# Altium footprint library LEM Current Transducer.PcbLib: 6 footprints
Each footprint in its own frame and in the unit in brackets; x right, y up, seen from the top. Pads: shape width x height; smd on the part's side, far side on the other; paste and mask are expansions set on the pad; w line width, h text height; cw(c..) or ccw(c..) is an arc to the next point about the centre after c.
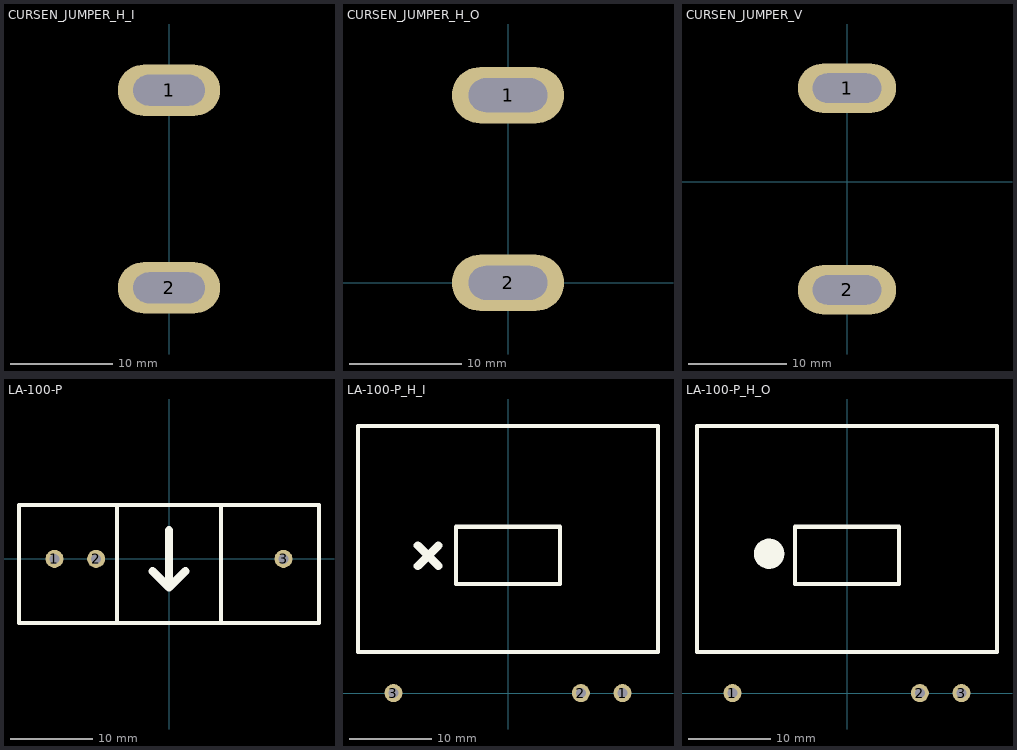
[diagram p0: the footprints below, top view; thin cyan lines are the x and y axes]

## CURSEN_JUMPER_H_I [mm]
height 19
pads (2):
  oval 10x5 hole 3 slot 7 at 0 deg: 1(0,36) 2(0,16.7)
3D body: height 15, standoff -2, extent -3,35 3,37
3D body: height 15, standoff -2, extent -3,15.7 3,17.7
3D body: height 17, standoff 15, extent -3,15.7 3,37

## CURSEN_JUMPER_H_O [mm]
height 19
pads (2):
  oval 10x5 hole 3 slot 7 at 0 deg: 1(0,16.7) 2(0,0)
3D body: height 17, standoff 15, extent -3,-1 3,17.7
3D body: height 15, standoff -2, extent -3,15.7 3,17.7
3D body: height 15, standoff -2, extent -3,-1 3,1

## CURSEN_JUMPER_V [mm]
height 10
pads (2):
  oval 10x5 hole 3 slot 7 at 0 deg: 1(0,9.5) 2(0,-11)

## LA-100-P [mm]
height 27.6
pads (3):
  round 2.2 hole 1.2: 1(-13.97,0) 2(-8.89,0) 3(13.97,0)
Top Overlay:
  lines w0.5: -6.35,-7.8 -6.35,6.55 ; 6.35,-7.8 6.35,6.55 ; -18.3,-7.8 -18.3,6.55 18.3,6.55 18.3,-7.8 -18.3,-7.8
  lines w1: -2,-1.5 0,-3.5 ; 0,3.5 0,-3.5 ; 2,-1.5 0,-3.5
3D body: height 15.3, standoff 8.3, extent 6.35,-7.8 18.3,6.55
3D body: height 15.3, standoff 8.3, extent -18.3,-7.8 -6.35,6.55
3D body: height 8.3, standoff 0, extent -18.3,-7.8 18.3,6.55
3D body: height 27.6, standoff 15.3, extent -18.3,-7.8 18.3,6.55

## LA-100-P_H_I [mm]
height 14.35
pads (3):
  round 2.2 hole 1.2: 1(13.97,0) 2(8.89,0) 3(-13.97,0)
Top Overlay:
  lines w0.5: -18.3,5 18.3,5 18.3,32.6 -18.3,32.6 -18.3,5 ; -6.35,13.3 6.35,13.3 6.35,20.3 -6.35,20.3 -6.35,13.3
  lines w1: -11,15.5 -8.5,18 ; -11,18 -8.5,15.5
3D body: height 14.35, standoff 0, extent -18.3,20.3 18.3,32.6
3D body: height 14.35, standoff 0, extent -18.3,5 18.3,20.3

## LA-100-P_H_O [mm]
height 14.35
pads (3):
  round 2.2 hole 1.2: 1(-13.97,0) 2(8.89,0) 3(13.97,0)
Top Overlay:
  circle w2: c-9.5,17 r0.849
  lines w0.5: -18.3,5 -18.3,32.6 18.3,32.6 18.3,5 -18.3,5 ; -6.35,13.3 -6.35,20.3 6.35,20.3 6.35,13.3 -6.35,13.3
3D body: height 14.35, standoff 0, extent -18.3,5 18.3,20.3
3D body: height 14.35, standoff 0, extent -18.3,20.3 18.3,32.6